# Altium footprint library DD.PcbLib: 17 footprints (part 2 of 2)
Each footprint in its own frame and in the unit in brackets; x right, y up, seen from the top. Pads: shape width x height; smd on the part's side, far side on the other; paste and mask are expansions set on the pad; w line width, h text height; cw(c..) or ccw(c..) is an arc to the next point about the centre after c.
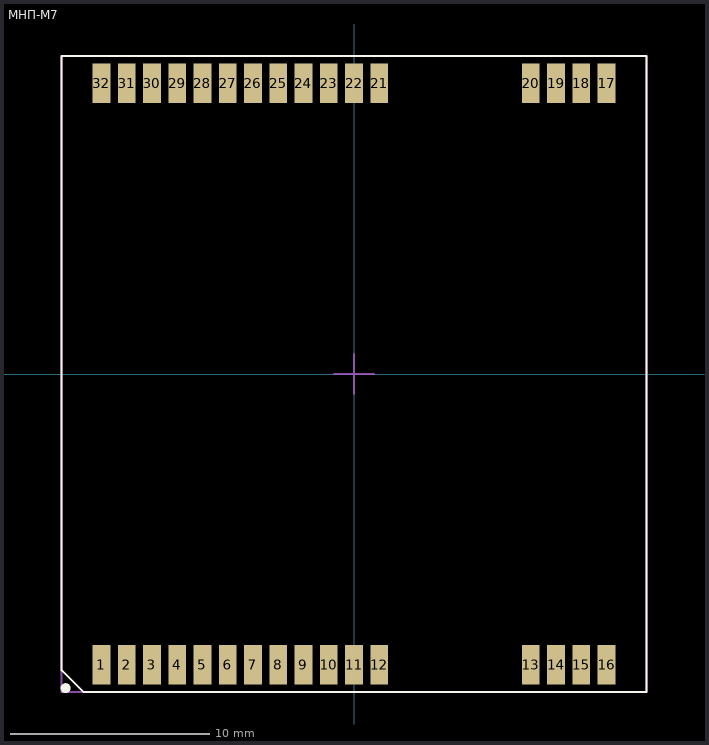
[diagram p1: the footprint, top view; thin cyan lines are the x and y axes]

## МНП-М7 [mm]
pads (32):
  rect 0.9x2 smd: 1(-12.7,-14.625) 2(-11.43,-14.625) 3(-10.16,-14.625) 4(-8.89,-14.625) 5(-7.62,-14.625) 6(-6.35,-14.625) 7(-5.08,-14.625) 8(-3.81,-14.625) 9(-2.54,-14.625) 10(-1.27,-14.625) 11(0,-14.625) 12(1.27,-14.625) 13(8.89,-14.625) 14(10.16,-14.625) 15(11.43,-14.625) 16(12.7,-14.625) 17(12.7,14.625) 18(11.43,14.625) 19(10.16,14.625) 20(8.89,14.625) 21(1.27,14.625) 22(0,14.625) 23(-1.27,14.625) 24(-2.54,14.625) 25(-3.81,14.625) 26(-5.08,14.625) 27(-6.35,14.625) 28(-7.62,14.625) 29(-8.89,14.625) 30(-10.16,14.625) 31(-11.43,14.625) 32(-12.7,14.625)
Top Overlay:
  circle w0.3: c-14.5,-15.8 r0.1
  lines w0.1: -14.7,-14.9 -13.6,-16 14.7,-16 14.7,16 -14.7,16 -14.7,-14.9
Mechanical 3:
  lines w0.1: -1,0 1,0 ; 0,-1 0,1 ; -14.7,-16 -14.7,16 14.7,16 14.7,-16 -14.7,-16
3D body "User Library-MNP-M7.step": height 3.45, standoff -0.02, extent -14.625,-14.6 14.618,14.712